# Altium schematic symbol library 0900BL18B100.Schlib: 1 symbol
Pins are listed as number, name and electrical type; pins without a type are passive.

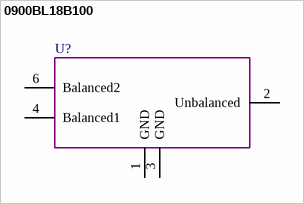
[diagram p0: symbol 0900BL18B100]

## 0900BL18B100
designator U?  (value not drawn)
pins: 1 GND, 2 Unbalanced, 3 GND, 4 Balanced1, 6 Balanced2